# EAGLE library part FPC-18WAY (library pimoroni-fpc)
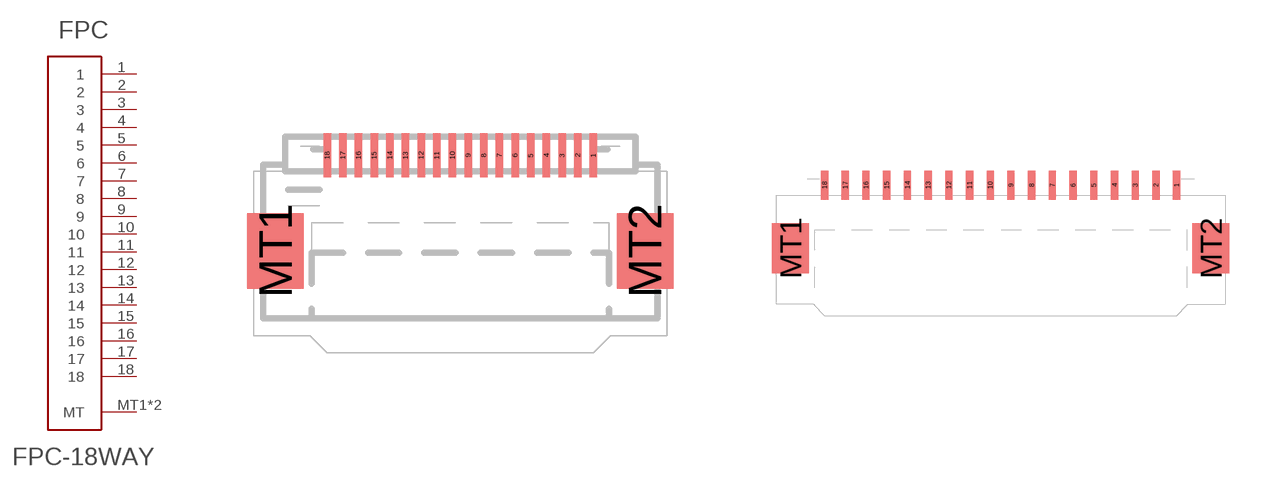
[diagram p13: symbol with the pads of FPC-0.5MM-18WAY; footprints FPC-0.5MM-18WAY, FPC-1.0MM-18WAY]

Designator prefix FPC

## FPC-18WAY0.5  [FPC-0.5MM-18WAY]
1  1
2  2
3  3
4  4
5  5
6  6
7  7
8  8
9  9
10  10
11  11
12  12
13  13
14  14
15  15
16  16
17  17
18  18
MT1  MT
MT2  MT

## FPC-18WAY1.0  [FPC-1.0MM-18WAY]
Pads as for FPC-0.5MM-18WAY

## Footprint FPC-0.5MM-18WAY (pad centres in mm)
smd 0.24 x 1.4: 1 4.25,0.7; 2 3.75,0.7; 3 3.25,0.7; 4 2.75,0.7; 5 2.25,0.7; 6 1.75,0.7; 7 1.25,0.7; 8 0.75,0.7; 9 0.25,0.7; 10 -0.25,0.7; 11 -0.75,0.7; 12 -1.25,0.7; 13 -1.75,0.7; 14 -2.25,0.7; 15 -2.75,0.7; 16 -3.25,0.7; 17 -3.75,0.7; 18 -4.25,0.7
smd 1.8 x 2.4: MT1 -5.9,-2.35; MT2 5.9,-2.35

## Footprint FPC-1.0MM-18WAY (pad centres in mm)
smd 0.35 x 1.4: 1 8.5,0.7; 2 7.5,0.7; 3 6.5,0.7; 4 5.5,0.7; 5 4.5,0.7; 6 3.5,0.7; 7 2.5,0.7; 8 1.5,0.7; 9 0.5,0.7; 10 -0.5,0.7; 11 -1.5,0.7; 12 -2.5,0.7; 13 -3.5,0.7; 14 -4.5,0.7; 15 -5.5,0.7; 16 -6.5,0.7; 17 -7.5,0.7; 18 -8.5,0.7
smd 1.8 x 2.4: MT1 -10.15,-2.35; MT2 10.15,-2.35